# Altium schematic symbol library 5P_CONNECTOR.SchLib: 1 symbol
Pins are listed as number, name and electrical type; pins without a type are passive.

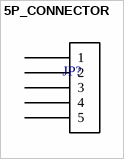
[diagram p0: symbol 5P_CONNECTOR]

## 5P_CONNECTOR
designator JP?  (value not drawn)
footprint 5PIN_2MM
pins: 1, 2, 3, 4, 5